# Altium schematic symbol library SN74AHCT1G125DBVR.SchLib: 1 symbol
Pins are listed as number, name and electrical type; pins without a type are passive.

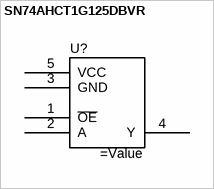
[diagram p0: symbol SN74AHCT1G125DBVR]

## SN74AHCT1G125DBVR
designator U?
IC BUS BUFF TRI-ST N-INV SOT23-5
pins: 1 ~{OE}, 2 A, 3 GND, 4 Y, 5 VCC